# EAGLE library part PIC18F97J60 (library _RoweTel)
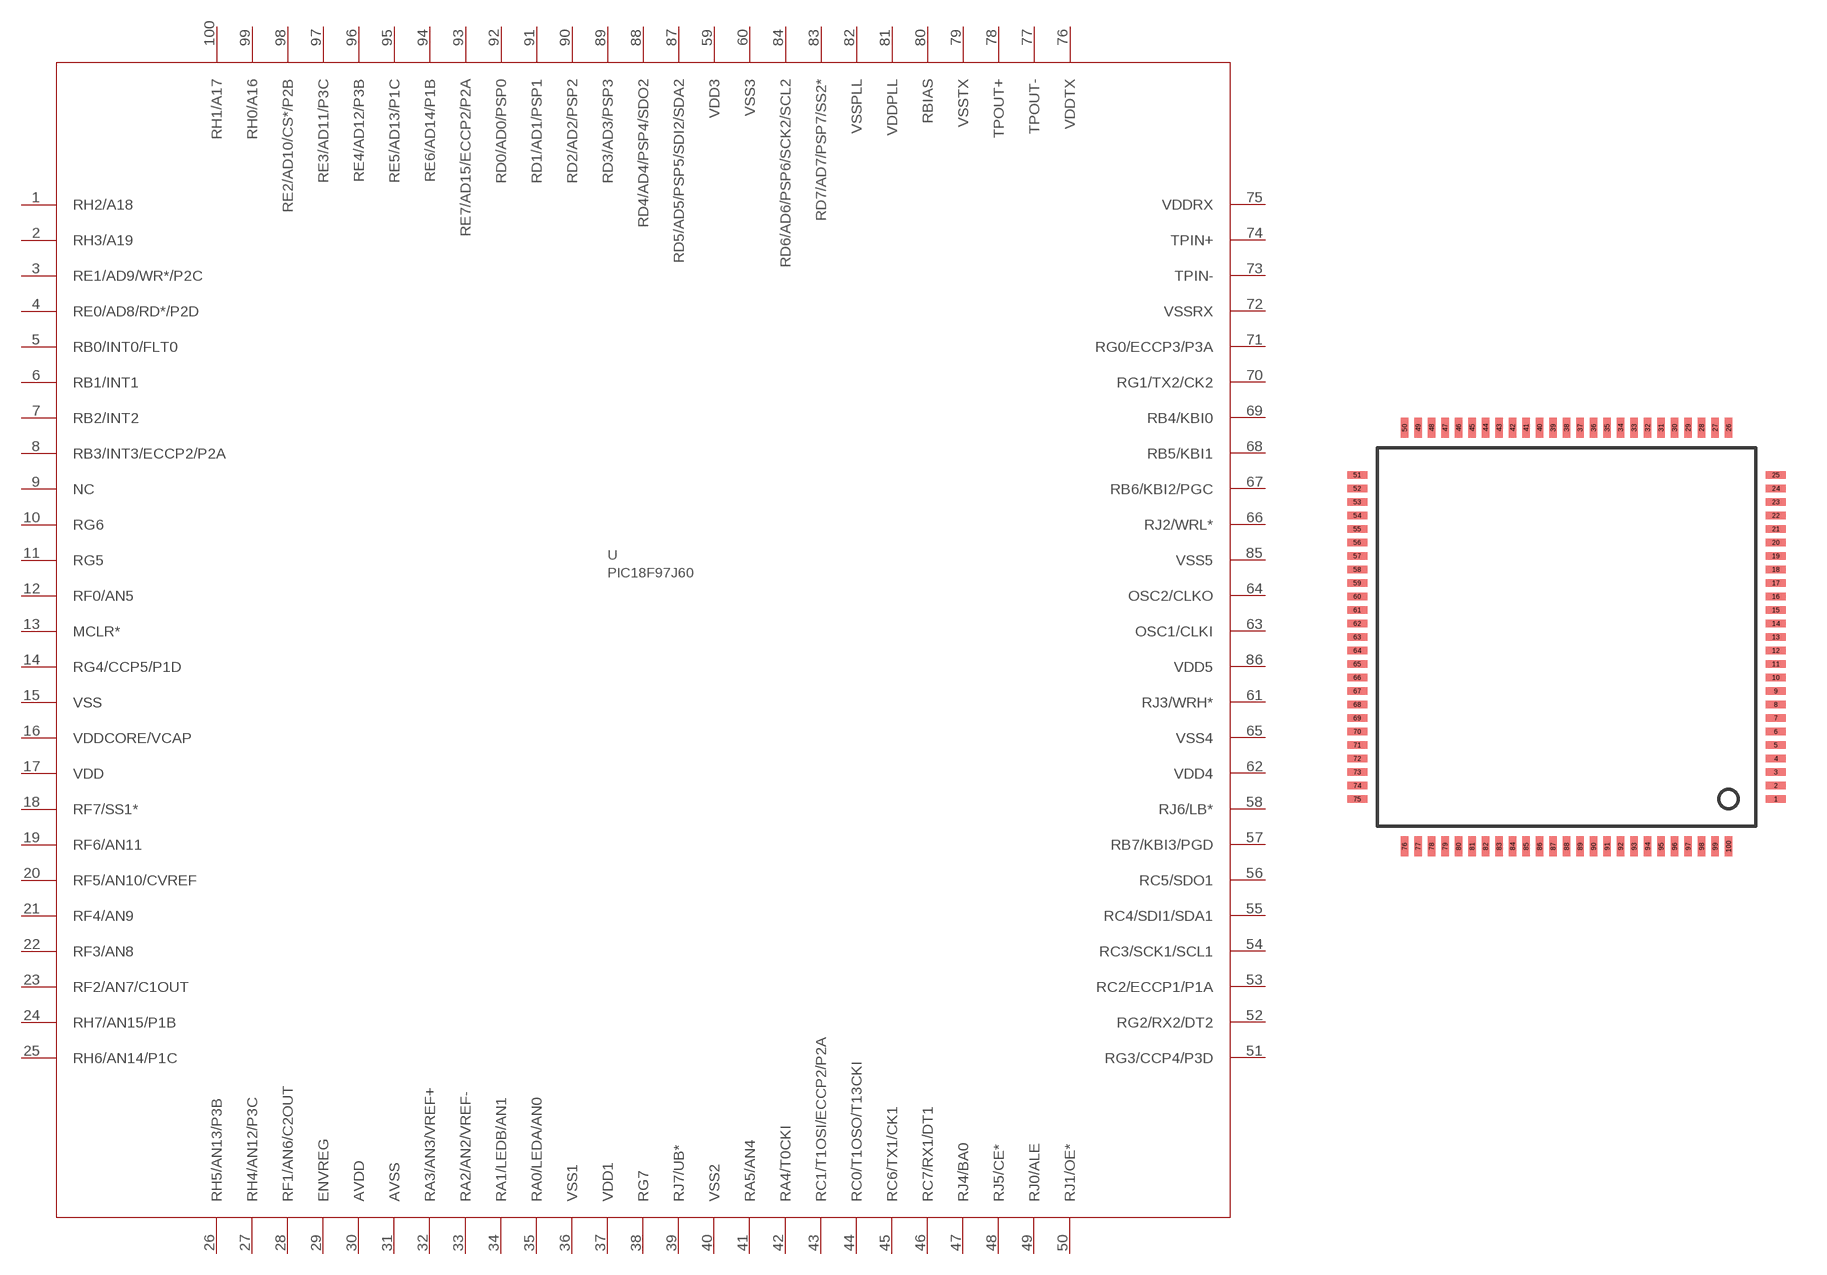
[diagram p50: symbol with the pads of TQFP100; footprint TQFP100]

Designator prefix U

## PIC18F97J60  [TQFP100]
1  RH2/A18
2  RH3/A19
3  RE1/AD9/WR*/P2C
4  RE0/AD8/RD*/P2D
5  RB0/INT0/FLT0
6  RB1/INT1
7  RB2/INT2
8  RB3/INT3/ECCP2/P2A
9  NC
10  RG6
11  RG5
12  RF0/AN5
13  MCLR*
14  RG4/CCP5/P1D
15  VSS
16  VDDCORE/VCAP
17  VDD
18  RF7/SS1*
19  RF6/AN11
20  RF5/AN10/CVREF
21  RF4/AN9
22  RF3/AN8
23  RF2/AN7/C1OUT
24  RH7/AN15/P1B
25  RH6/AN14/P1C
26  RH5/AN13/P3B
27  RH4/AN12/P3C
28  RF1/AN6/C2OUT
29  ENVREG
30  AVDD
31  AVSS
32  RA3/AN3/VREF+
33  RA2/AN2/VREF-
34  RA1/LEDB/AN1
35  RA0/LEDA/AN0
36  VSS1
37  VDD1
38  RG7
39  RJ7/UB*
40  VSS2
41  RA5/AN4
42  RA4/T0CKI
43  RC1/T1OSI/ECCP2/P2A
44  RC0/T1OSO/T13CKI
45  RC6/TX1/CK1
46  RC7/RX1/DT1
47  RJ4/BA0
48  RJ5/CE*
49  RJ0/ALE
50  RJ1/OE*
51  RG3/CCP4/P3D
52  RG2/RX2/DT2
53  RC2/ECCP1/P1A
54  RC3/SCK1/SCL1
55  RC4/SDI1/SDA1
56  RC5/SDO1
57  RB7/KBI3/PGD
58  RJ6/LB*
59  VDD3
60  VSS3
61  RJ3/WRH*
62  VDD4
63  OSC1/CLKI
64  OSC2/CLKO
65  VSS4
66  RJ2/WRL*
67  RB6/KBI2/PGC
68  RB5/KBI1
69  RB4/KBI0
70  RG1/TX2/CK2
71  RG0/ECCP3/P3A
72  VSSRX
73  TPIN-
74  TPIN+
75  VDDRX
76  VDDTX
77  TPOUT-
78  TPOUT+
79  VSSTX
80  RBIAS
81  VDDPLL
82  VSSPLL
83  RD7/AD7/PSP7/SS2*
84  RD6/AD6/PSP6/SCK2/SCL2
85  VSS5
86  VDD5
87  RD5/AD5/PSP5/SDI2/SDA2
88  RD4/AD4/PSP4/SDO2
89  RD3/AD3/PSP3
90  RD2/AD2/PSP2
91  RD1/AD1/PSP1
92  RD0/AD0/PSP0
93  RE7/AD15/ECCP2/P2A
94  RE6/AD14/P1B
95  RE5/AD13/P1C
96  RE4/AD12/P3B
97  RE3/AD11/P3C
98  RE2/AD10/CS*/P2B
99  RH0/A16
100  RH1/A17

## Footprint TQFP100 (pad centres in mm)
smd 0.75 x 0.27: 1 7.75,-6; 2 7.75,-5.5; 3 7.75,-5; 4 7.75,-4.5; 5 7.75,-4; 6 7.75,-3.5; 7 7.75,-3; 8 7.75,-2.5; 9 7.75,-2; 10 7.75,-1.5; 11 7.75,-1; 12 7.75,-0.5; 13 7.75,0; 14 7.75,0.5; 15 7.75,1; 16 7.75,1.5; 17 7.75,2; 18 7.75,2.5; 19 7.75,3; 20 7.75,3.5; 21 7.75,4; 22 7.75,4.5; 23 7.75,5; 24 7.75,5.5; 25 7.75,6; 51 -7.75,6; 52 -7.75,5.5; 53 -7.75,5; 54 -7.75,4.5; 55 -7.75,4; 56 -7.75,3.5; 57 -7.75,3; 58 -7.75,2.5; 59 -7.75,2; 60 -7.75,1.5; 61 -7.75,1; 62 -7.75,0.5; 63 -7.75,0; 64 -7.75,-0.5; 65 -7.75,-1; 66 -7.75,-1.5; 67 -7.75,-2; 68 -7.75,-2.5; 69 -7.75,-3; 70 -7.75,-3.5; 71 -7.75,-4; 72 -7.75,-4.5; 73 -7.75,-5; 74 -7.75,-5.5; 75 -7.75,-6
smd 0.27 x 0.75: 26 6,7.75; 27 5.5,7.75; 28 5,7.75; 29 4.5,7.75; 30 4,7.75; 31 3.5,7.75; 32 3,7.75; 33 2.5,7.75; 34 2,7.75; 35 1.5,7.75; 36 1,7.75; 37 0.5,7.75; 38 0,7.75; 39 -0.5,7.75; 40 -1,7.75; 41 -1.5,7.75; 42 -2,7.75; 43 -2.5,7.75; 44 -3,7.75; 45 -3.5,7.75; 46 -4,7.75; 47 -4.5,7.75; 48 -5,7.75; 49 -5.5,7.75; 50 -6,7.75; 76 -6,-7.75; 77 -5.5,-7.75; 78 -5,-7.75; 79 -4.5,-7.75; 80 -4,-7.75; 81 -3.5,-7.75; 82 -3,-7.75; 83 -2.5,-7.75; 84 -2,-7.75; 85 -1.5,-7.75; 86 -1,-7.75; 87 -0.5,-7.75; 88 0,-7.75; 89 0.5,-7.75; 90 1,-7.75; 91 1.5,-7.75; 92 2,-7.75; 93 2.5,-7.75; 94 3,-7.75; 95 3.5,-7.75; 96 4,-7.75; 97 4.5,-7.75; 98 5,-7.75; 99 5.5,-7.75; 100 6,-7.75